# Altium schematic symbol library Schlib1.SchLib: 2 symbols
Pins are listed as number, name and electrical type; pins without a type are passive.

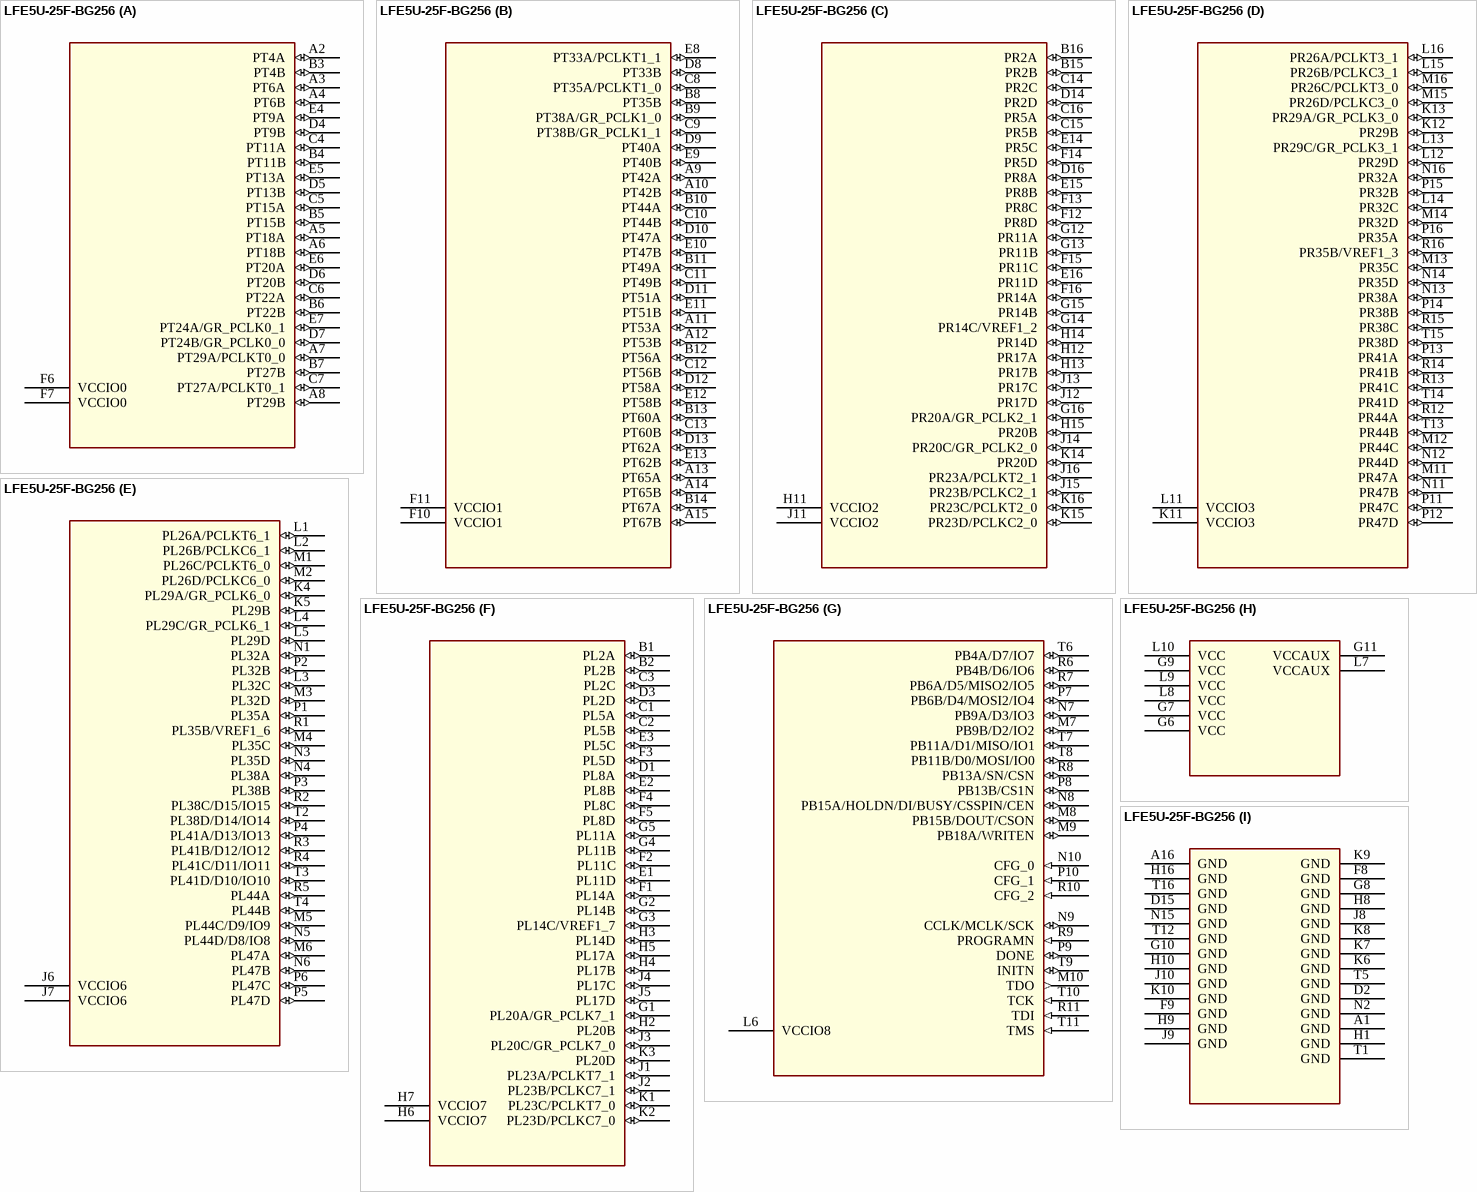
[diagram p0: symbol LFE5U-25F-BG256]

## LFE5U-25F-BG256
designator U?
SWAP_INFO: (S1+S2+S3+S4+S5+S6+S7+S8+S9); SPLIT_INST: TRUE
part A pins: A2 PT4A (io), A3 PT6A (io), A4 PT6B (io), A5 PT18A (io), A6 PT18B (io), A7 PT29A/PCLKT0_0 (io), A8 PT29B (io), B3 PT4B (io), B4 PT11B (io), B5 PT15B (io), B6 PT22B (io), B7 PT27B (io), C4 PT11A (io), C5 PT15A (io), C6 PT22A (io), C7 PT27A/PCLKT0_1 (io), D4 PT9B (io), D5 PT13B (io), D6 PT20B (io), D7 PT24B/GR_PCLK0_0 (io), E4 PT9A (io), E5 PT13A (io), E6 PT20A (io), E7 PT24A/GR_PCLK0_1 (io), F6 VCCIO0 (power), F7 VCCIO0 (power)
part B pins: A9 PT42A (io), A10 PT42B (io), A11 PT53A (io), A12 PT53B (io), A13 PT65A (io), A14 PT65B (io), A15 PT67B (io), B8 PT35B (io), B9 PT38A/GR_PCLK1_0 (io), B10 PT44A (io), B11 PT49A (io), B12 PT56A (io), B13 PT60A (io), B14 PT67A (io), C8 PT35A/PCLKT1_0 (io), C9 PT38B/GR_PCLK1_1 (io), C10 PT44B (io), C11 PT49B (io), C12 PT56B (io), C13 PT60B (io), D8 PT33B (io), D9 PT40A (io), D10 PT47A (io), D11 PT51A (io), D12 PT58A (io), D13 PT62A (io), E8 PT33A/PCLKT1_1 (io), E9 PT40B (io), E10 PT47B (io), E11 PT51B (io), E12 PT58B (io), E13 PT62B (io), F10 VCCIO1 (power), F11 VCCIO1 (power)
part C pins: B15 PR2B (io), B16 PR2A (io), C14 PR2C (io), C15 PR5B (io), C16 PR5A (io), D14 PR2D (io), D16 PR8A (io), E14 PR5C (io), E15 PR8B (io), E16 PR11D (io), F12 PR8D (io), F13 PR8C (io), F14 PR5D (io), F15 PR11C (io), F16 PR14A (io), G12 PR11A (io), G13 PR11B (io), G14 PR14C/VREF1_2 (io), G15 PR14B (io), G16 PR20A/GR_PCLK2_1 (io), H11 VCCIO2 (power), H12 PR17A (io), H13 PR17B (io), H14 PR14D (io), H15 PR20B (io), J11 VCCIO2 (power), J12 PR17D (io), J13 PR17C (io), J14 PR20C/GR_PCLK2_0 (io), J15 PR23B/PCLKC2_1 (io), J16 PR23A/PCLKT2_1 (io), K14 PR20D (io), K15 PR23D/PCLKC2_0 (io), K16 PR23C/PCLKT2_0 (io)
part D pins: K11 VCCIO3 (power), K12 PR29B (io), K13 PR29A/GR_PCLK3_0 (io), L11 VCCIO3 (power), L12 PR29D (io), L13 PR29C/GR_PCLK3_1 (io), L14 PR32C (io), L15 PR26B/PCLKC3_1 (io), L16 PR26A/PCLKT3_1 (io), M11 PR47A (io), M12 PR44C (io), M13 PR35C (io), M14 PR32D (io), M15 PR26D/PCLKC3_0 (io), M16 PR26C/PCLKT3_0 (io), N11 PR47B (io), N12 PR44D (io), N13 PR38A (io), N14 PR35D (io), N16 PR32A (io), P11 PR47C (io), P12 PR47D (io), P13 PR41A (io), P14 PR38B (io), P15 PR32B (io), P16 PR35A (io), R12 PR44A (io), R13 PR41C (io), R14 PR41B (io), R15 PR38C (io), R16 PR35B/VREF1_3 (io), T13 PR44B (io), T14 PR41D (io), T15 PR38D (io)
part E pins: J6 VCCIO6 (power), J7 VCCIO6 (power), K4 PL29A/GR_PCLK6_0 (io), K5 PL29B (io), L1 PL26A/PCLKT6_1 (io), L2 PL26B/PCLKC6_1 (io), L3 PL32C (io), L4 PL29C/GR_PCLK6_1 (io), L5 PL29D (io), M1 PL26C/PCLKT6_0 (io), M2 PL26D/PCLKC6_0 (io), M3 PL32D (io), M4 PL35C (io), M5 PL44C/D9/IO9 (io), M6 PL47A (io), N1 PL32A (io), N3 PL35D (io), N4 PL38A (io), N5 PL44D/D8/IO8 (io), N6 PL47B (io), P1 PL35A (io), P2 PL32B (io), P3 PL38B (io), P4 PL41A/D13/IO13 (io), P5 PL47D (io), P6 PL47C (io), R1 PL35B/VREF1_6 (io), R2 PL38C/D15/IO15 (io), R3 PL41B/D12/IO12 (io), R4 PL41C/D11/IO11 (io), R5 PL44A (io), T2 PL38D/D14/IO14 (io), T3 PL41D/D10/IO10 (io), T4 PL44B (io)
part F pins: B1 PL2A (io), B2 PL2B (io), C1 PL5A (io), C2 PL5B (io), C3 PL2C (io), D1 PL8A (io), D3 PL2D (io), E1 PL11D (io), E2 PL8B (io), E3 PL5C (io), F1 PL14A (io), F2 PL11C (io), F3 PL5D (io), F4 PL8C (io), F5 PL8D (io), G1 PL20A/GR_PCLK7_1 (io), G2 PL14B (io), G3 PL14C/VREF1_7 (io), G4 PL11B (io), G5 PL11A (io), H2 PL20B (io), H3 PL14D (io), H4 PL17B (io), H5 PL17A (io), H6 VCCIO7 (power), H7 VCCIO7 (power), J1 PL23A/PCLKT7_1 (io), J2 PL23B/PCLKC7_1 (io), J3 PL20C/GR_PCLK7_0 (io), J4 PL17C (io), J5 PL17D (io), K1 PL23C/PCLKT7_0 (io), K2 PL23D/PCLKC7_0 (io), K3 PL20D (io)
part G pins: L6 VCCIO8 (power), M7 PB9B/D2/IO2 (io), M8 PB15B/DOUT/CSON (io), M9 PB18A/WRITEN (io), M10 TDO (out), N7 PB9A/D3/IO3 (io), N8 PB15A/HOLDN/DI/BUSY/CSSPIN/CEN (io), N9 CCLK/MCLK/SCK (io), N10 CFG_0 (in), P7 PB6B/D4/MOSI2/IO4 (io), P8 PB13B/CS1N (io), P9 DONE (io), P10 CFG_1 (in), R6 PB4B/D6/IO6 (io), R7 PB6A/D5/MISO2/IO5 (io), R8 PB13A/SN/CSN (io), R9 PROGRAMN (in), R10 CFG_2 (in), R11 TDI (in), T6 PB4A/D7/IO7 (io), T7 PB11A/D1/MISO/IO1 (io), T8 PB11B/D0/MOSI/IO0 (io), T9 INITN (io), T10 TCK (in), T11 TMS (in)
part H pins: G6 VCC (power), G7 VCC (power), G9 VCC (power), G11 VCCAUX (power), L7 VCCAUX (power), L8 VCC (power), L9 VCC (power), L10 VCC (power)
part I pins: A1 GND (power), A16 GND (power), D2 GND (power), D15 GND (power), F8 GND (power), F9 GND (power), G8 GND (power), G10 GND (power), H1 GND (power), H8 GND (power), H9 GND (power), H10 GND (power), H16 GND (power), J8 GND (power), J9 GND (power), J10 GND (power), K6 GND (power), K7 GND (power), K8 GND (power), K9 GND (power), K10 GND (power), N2 GND (power), N15 GND (power), T1 GND (power), T5 GND (power), T12 GND (power), T16 GND (power)

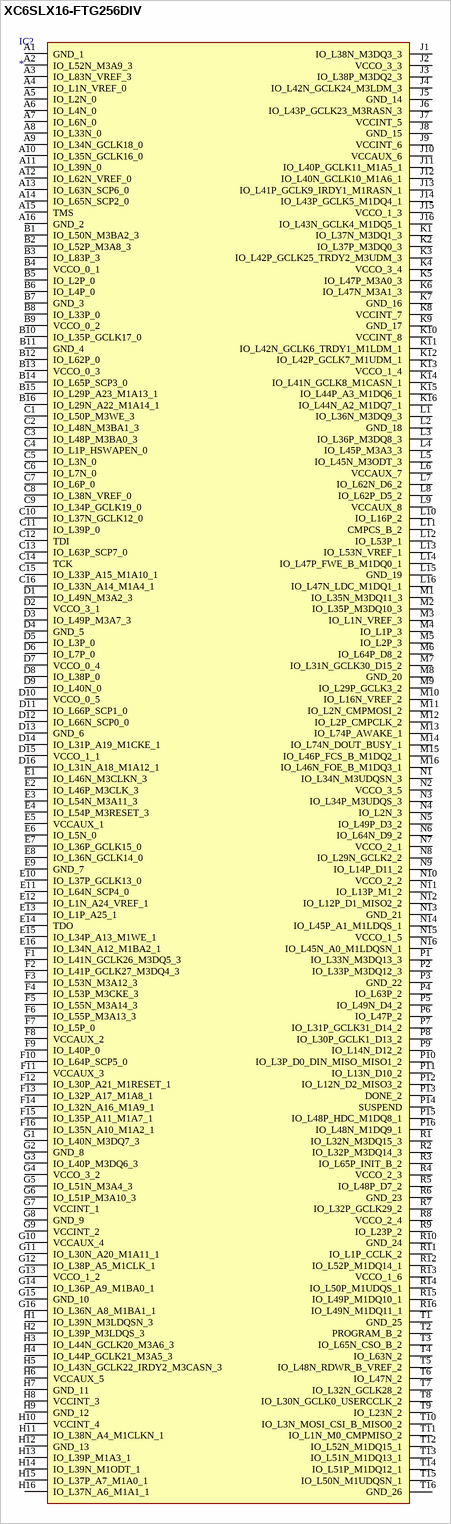
[diagram p1: symbol XC6SLX16-FTG256DIV]

## XC6SLX16-FTG256DIV
designator IC?
Integrated Circuit; Manufacturer_Name: XILINX; Manufacturer_Part_Number: XC6SLX16-FTG256DIV; Datasheet Link: https://www.xilinx.com/support/documents/package_specs/ft256.pdf; Height: 1.55mm
pins: A1 GND_1, A2 IO_L52N_M3A9_3, A3 IO_L83N_VREF_3, A4 IO_L1N_VREF_0, A5 IO_L2N_0, A6 IO_L4N_0, A7 IO_L6N_0, A8 IO_L33N_0, A9 IO_L34N_GCLK18_0, A10 IO_L35N_GCLK16_0, A11 IO_L39N_0, A12 IO_L62N_VREF_0, A13 IO_L63N_SCP6_0, A14 IO_L65N_SCP2_0, A15 TMS, A16 GND_2, B1 IO_L50N_M3BA2_3, B2 IO_L52P_M3A8_3, B3 IO_L83P_3, B4 VCCO_0_1, B5 IO_L2P_0, B6 IO_L4P_0, B7 GND_3, B8 IO_L33P_0, B9 VCCO_0_2, B10 IO_L35P_GCLK17_0, B11 GND_4, B12 IO_L62P_0, B13 VCCO_0_3, B14 IO_L65P_SCP3_0, B15 IO_L29P_A23_M1A13_1, B16 IO_L29N_A22_M1A14_1, C1 IO_L50P_M3WE_3, C2 IO_L48N_M3BA1_3, C3 IO_L48P_M3BA0_3, C4 IO_L1P_HSWAPEN_0, C5 IO_L3N_0, C6 IO_L7N_0, C7 IO_L6P_0, C8 IO_L38N_VREF_0, C9 IO_L34P_GCLK19_0, C10 IO_L37N_GCLK12_0, C11 IO_L39P_0, C12 TDI, C13 IO_L63P_SCP7_0, C14 TCK, C15 IO_L33P_A15_M1A10_1, C16 IO_L33N_A14_M1A4_1, D1 IO_L49N_M3A2_3, D2 VCCO_3_1, D3 IO_L49P_M3A7_3, D4 GND_5, D5 IO_L3P_0, D6 IO_L7P_0, D7 VCCO_0_4, D8 IO_L38P_0, D9 IO_L40N_0, D10 VCCO_0_5, D11 IO_L66P_SCP1_0, D12 IO_L66N_SCP0_0, D13 GND_6, D14 IO_L31P_A19_M1CKE_1, D15 VCCO_1_1, D16 IO_L31N_A18_M1A12_1, E1 IO_L46N_M3CLKN_3, E2 IO_L46P_M3CLK_3, E3 IO_L54N_M3A11_3, E4 IO_L54P_M3RESET_3, E5 VCCAUX_1, E6 IO_L5N_0, E7 IO_L36P_GCLK15_0, E8 IO_L36N_GCLK14_0, E9 GND_7, E10 IO_L37P_GCLK13_0, E11 IO_L64N_SCP4_0, E12 IO_L1N_A24_VREF_1, E13 IO_L1P_A25_1, E14 TDO, E15 IO_L34P_A13_M1WE_1, E16 IO_L34N_A12_M1BA2_1, F1 IO_L41N_GCLK26_M3DQ5_3, F2 IO_L41P_GCLK27_M3DQ4_3, F3 IO_L53N_M3A12_3, F4 IO_L53P_M3CKE_3, F5 IO_L55N_M3A14_3, F6 IO_L55P_M3A13_3, F7 IO_L5P_0, F8 VCCAUX_2, F9 IO_L40P_0, F10 IO_L64P_SCP5_0, F11 VCCAUX_3, F12 IO_L30P_A21_M1RESET_1, F13 IO_L32P_A17_M1A8_1, F14 IO_L32N_A16_M1A9_1, F15 IO_L35P_A11_M1A7_1, F16 IO_L35N_A10_M1A2_1, G1 IO_L40N_M3DQ7_3, G2 GND_8, G3 IO_L40P_M3DQ6_3, G4 VCCO_3_2, G5 IO_L51N_M3A4_3, G6 IO_L51P_M3A10_3, G7 VCCINT_1, G8 GND_9, G9 VCCINT_2, G10 VCCAUX_4, G11 IO_L30N_A20_M1A11_1, G12 IO_L38P_A5_M1CLK_1, G13 VCCO_1_2, G14 IO_L36P_A9_M1BA0_1, G15 GND_10, G16 IO_L36N_A8_M1BA1_1, H1 IO_L39N_M3LDQSN_3, H2 IO_L39P_M3LDQS_3, H3 IO_L44N_GCLK20_M3A6_3, H4 IO_L44P_GCLK21_M3A5_3, H5 IO_L43N_GCLK22_IRDY2_M3CASN_3, H6 VCCAUX_5, H7 GND_11, H8 VCCINT_3, H9 GND_12, H10 VCCINT_4, H11 IO_L38N_A4_M1CLKN_1, H12 GND_13, H13 IO_L39P_M1A3_1, H14 IO_L39N_M1ODT_1, H15 IO_L37P_A7_M1A0_1, H16 IO_L37N_A6_M1A1_1, J1 IO_L38N_M3DQ3_3, J2 VCCO_3_3, J3 IO_L38P_M3DQ2_3, J4 IO_L42N_GCLK24_M3LDM_3, J5 GND_14, J6 IO_L43P_GCLK23_M3RASN_3, J7 VCCINT_5, J8 GND_15, J9 VCCINT_6, J10 VCCAUX_6, J11 IO_L40P_GCLK11_M1A5_1, J12 IO_L40N_GCLK10_M1A6_1, J13 IO_L41P_GCLK9_IRDY1_M1RASN_1, J14 IO_L43P_GCLK5_M1DQ4_1, J15 VCCO_1_3, J16 IO_L43N_GCLK4_M1DQ5_1, K1 IO_L37N_M3DQ1_3, K2 IO_L37P_M3DQ0_3, K3 IO_L42P_GCLK25_TRDY2_M3UDM_3, K4 VCCO_3_4, K5 IO_L47P_M3A0_3, K6 IO_L47N_M3A1_3, K7 GND_16, K8 VCCINT_7, K9 GND_17, K10 VCCINT_8, K11 IO_L42N_GCLK6_TRDY1_M1LDM_1, K12 IO_L42P_GCLK7_M1UDM_1, K13 VCCO_1_4, K14 IO_L41N_GCLK8_M1CASN_1, K15 IO_L44P_A3_M1DQ6_1, K16 IO_L44N_A2_M1DQ7_1, L1 IO_L36N_M3DQ9_3, L2 GND_18, L3 IO_L36P_M3DQ8_3, L4 IO_L45P_M3A3_3, L5 IO_L45N_M3ODT_3, L6 VCCAUX_7, L7 IO_L62N_D6_2, L8 IO_L62P_D5_2, L9 VCCAUX_8, L10 IO_L16P_2, L11 CMPCS_B_2, L12 IO_L53P_1, L13 IO_L53N_VREF_1, L14 IO_L47P_FWE_B_M1DQ0_1, L15 GND_19, L16 IO_L47N_LDC_M1DQ1_1, M1 IO_L35N_M3DQ11_3, M2 IO_L35P_M3DQ10_3, M3 IO_L1N_VREF_3, M4 IO_L1P_3, M5 IO_L2P_3, M6 IO_L64P_D8_2, M7 IO_L31N_GCLK30_D15_2, M8 GND_20, M9 IO_L29P_GCLK3_2, M10 IO_L16N_VREF_2, M11 IO_L2N_CMPMOSI_2, M12 IO_L2P_CMPCLK_2, M13 IO_L74P_AWAKE_1, M14 IO_L74N_DOUT_BUSY_1, M15 IO_L46P_FCS_B_M1DQ2_1, M16 IO_L46N_FOE_B_M1DQ3_1, N1 IO_L34N_M3UDQSN_3, N2 VCCO_3_5, N3 IO_L34P_M3UDQS_3, N4 IO_L2N_3, N5 IO_L49P_D3_2, N6 IO_L64N_D9_2, N7 VCCO_2_1, N8 IO_L29N_GCLK2_2, N9 IO_L14P_D11_2, N10 VCCO_2_2, N11 IO_L13P_M1_2, N12 IO_L12P_D1_MISO2_2, N13 GND_21, N14 IO_L45P_A1_M1LDQS_1, N15 VCCO_1_5, N16 IO_L45N_A0_M1LDQSN_1, P1 IO_L33N_M3DQ13_3, P2 IO_L33P_M3DQ12_3, P3 GND_22, P4 IO_L63P_2, P5 IO_L49N_D4_2, P6 IO_L47P_2, P7 IO_L31P_GCLK31_D14_2, P8 IO_L30P_GCLK1_D13_2, P9 IO_L14N_D12_2, P10 IO_L3P_D0_DIN_MISO_MISO1_2, P11 IO_L13N_D10_2, P12 IO_L12N_D2_MISO3_2, P13 DONE_2, P14 SUSPEND, P15 IO_L48P_HDC_M1DQ8_1, P16 IO_L48N_M1DQ9_1, R1 IO_L32N_M3DQ15_3, R2 IO_L32P_M3DQ14_3, R3 IO_L65P_INIT_B_2, R4 VCCO_2_3, R5 IO_L48P_D7_2, R6 GND_23, R7 IO_L32P_GCLK29_2, R8 VCCO_2_4, R9 IO_L23P_2, R10 GND_24, R11 IO_L1P_CCLK_2, R12 IO_L52P_M1DQ14_1, R13 VCCO_1_6, R14 IO_L50P_M1UDQS_1, R15 IO_L49P_M1DQ10_1, R16 IO_L49N_M1DQ11_1, T1 GND_25, T2 PROGRAM_B_2, T3 IO_L65N_CSO_B_2, T4 IO_L63N_2, T5 IO_L48N_RDWR_B_VREF_2, T6 IO_L47N_2, T7 IO_L32N_GCLK28_2, T8 IO_L30N_GCLK0_USERCCLK_2, T9 IO_L23N_2, T10 IO_L3N_MOSI_CSI_B_MISO0_2, T11 IO_L1N_M0_CMPMISO_2, T12 IO_L52N_M1DQ15_1, T13 IO_L51N_M1DQ13_1, T14 IO_L51P_M1DQ12_1, T15 IO_L50N_M1UDQSN_1, T16 GND_26